# Altium integrated library pca63519.IntLib: 43 symbols
Pins are listed as number, name and electrical type; pins without a type are passive.

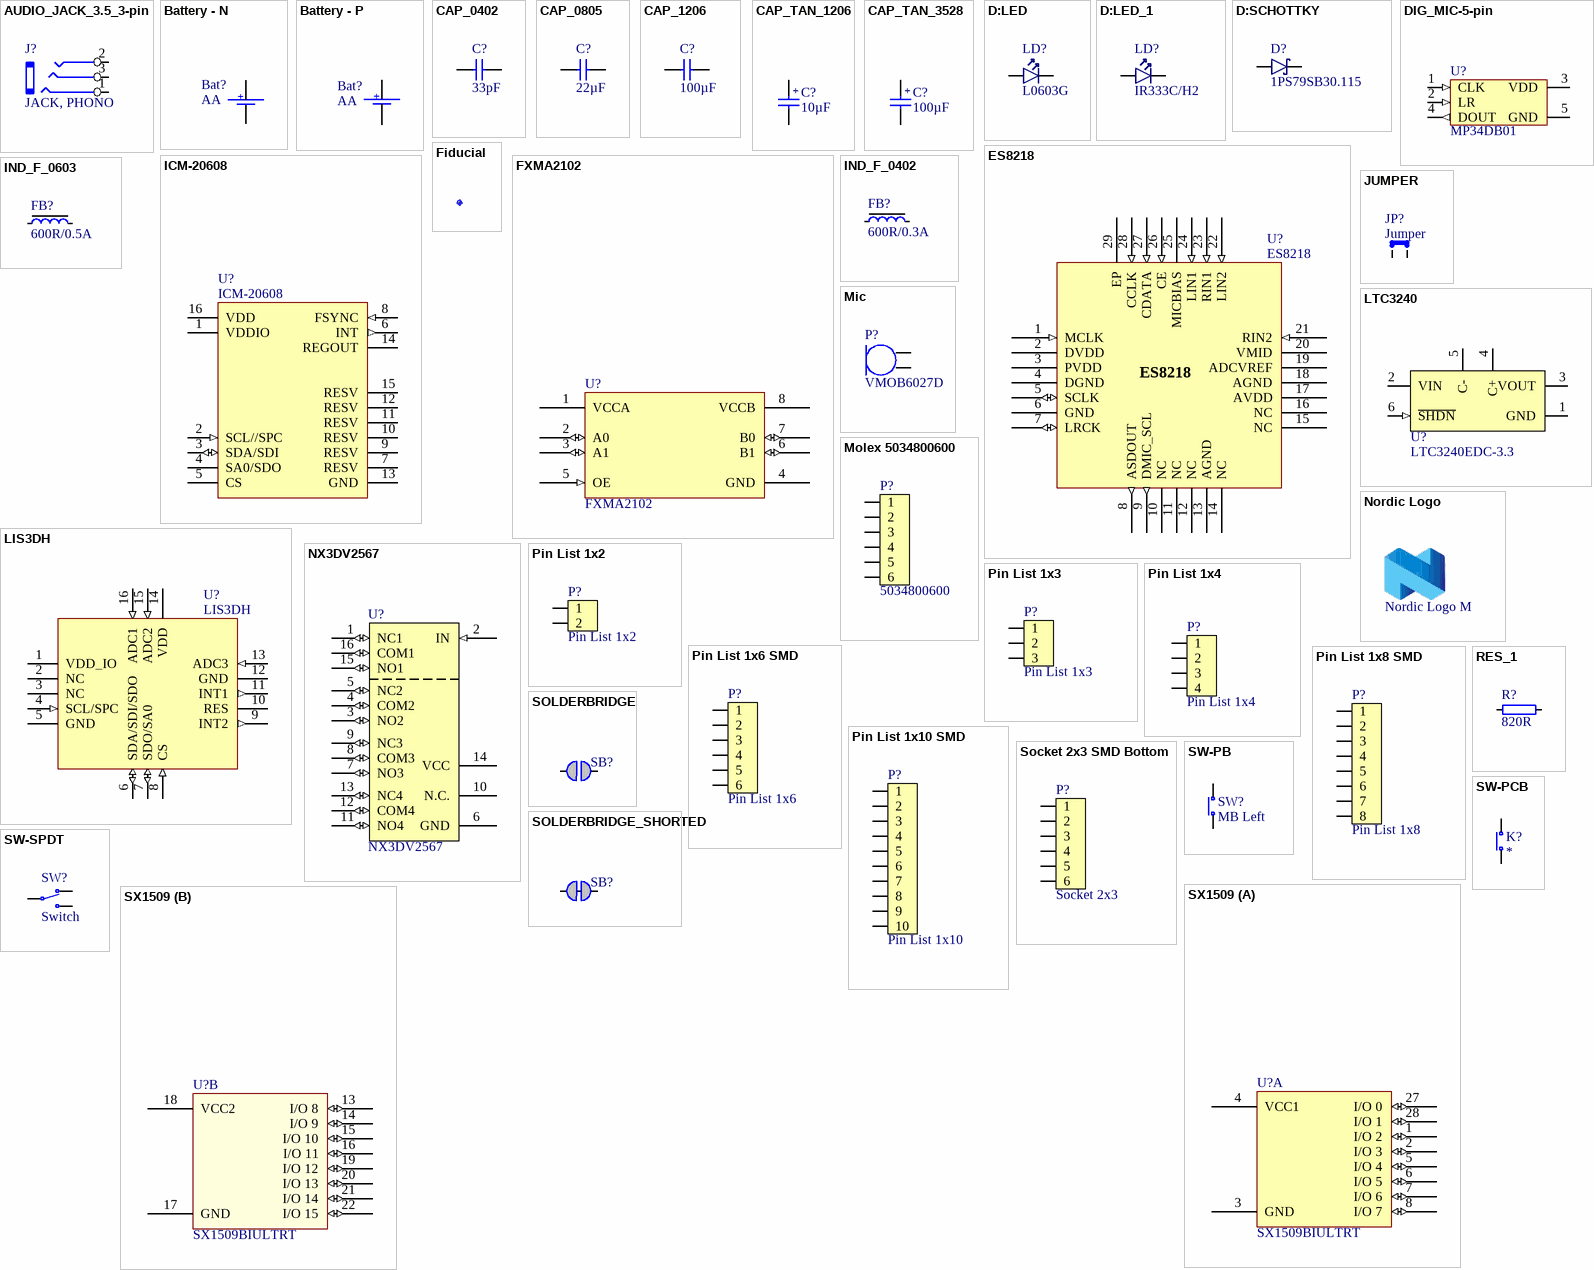
[diagram p0: symbols AUDIO_JACK_3.5_3-pin to SX1509]

## AUDIO_JACK_3.5_3-pin
designator J?, comment JACK, PHONO
CONN AUDIO JACK 3.5MM STEREO SMD; Part Number: SJ-3523-SMT-TR; Manufacturer: CUI Inc.; Artikkelnr Noca: N.A.; Manufacturer Part Number: SJ-3523-SMT-TR; Datasheet: http://www.cui.com/product/resource/digikeypdf/sj-352x-smt_series.pdf; Footprint Doc: SJ-3523-SMT-TR; LatestRevisionDate: 2014-12-15; Pin Count: 3; Publisher: Nordic Semiconductor; Published: 2014-12-15; Value: JACK, PHONO; Note: *; Supplier: Digi-Key; Supplier part number: CP-3523SJCT-ND; 2nd source Supplier: *; 2nd source part number: *; Artikkelnr Simpro: N.A.
footprint SJ-3523-SMT-TR
pins: 1 GND, 2 L, 3 R

## Battery - N
designator Bat?, comment AA
Polsat Battery holder, Negative pole; Part Number: POLSATBATTERYHOLDER_N; Manufacturer Part Number: NA; Artikkelnr Noca: N.A.; Manufacturer: PolSat; Datasheet: NA; Footprint Doc: POLSATBATTERYHOLDER; LatestRevisionDate: 2015-09-24; Pin Count: 1; Publisher: Nordic Semiconductor; Published: 2015-09-24; Value: POLSATBATTERYHOLDER; Note: AA; Supplier: *; Supplier part number: *; 2nd source Supplier: *; 2nd source part number: *; Artikkelnr Simpro: N.A.
footprint POLSATBATTERYHOLDER
pins: 1
text: +

## Battery - P
designator Bat?, comment AA
Polsat Battery holder, Positive pole; Part Number: POLSATBATTERYHOLDER_P; Manufacturer Part Number: NA; Artikkelnr Noca: N.A.; Manufacturer: PolSat; Datasheet: NA; Footprint Doc: POLSATBATTERYHOLDER; LatestRevisionDate: 2015-09-24; Pin Count: 1; Publisher: Nordic Semiconductor; Published: 2015-09-24; Value: POLSATBATTERYHOLDER; Note: AA; Supplier: *; Supplier part number: *; 2nd source Supplier: *; 2nd source part number: *; Artikkelnr Simpro: N.A.
footprint POLSATBATTERYHOLDER
pins: 1
text: +

## CAP_0402
designator C?, comment 33pF
Capacitor, NP0, ±5%; Part Number: C0402-33p; Note: 50V; Artikkelnr Noca: 20029146; Artikkelnr Simpro: N.A.; Manufacturer: *; Manufacturer Part Number: *; Datasheet: *; Footprint Doc: 0402; LatestRevisionDate: 2009-05-08; Pin Count: 2; Publisher: Nordic Semiconductor; Published: 2009-05-08; Value: 33pF; Supplier: *; Supplier part number: *; 2nd source Supplier: *; 2nd source part number: *
footprint CAPC1005X04L
pins: 1, 2

## CAP_0805
designator C?, comment 22µF
Capacitor, X5R, ±10%; Part Number: C0805-22µ; Note: 6.3V; Artikkelnr Noca: 20039330; Artikkelnr Simpro: N.A.; Manufacturer: *; Manufacturer Part Number: *; Datasheet: *; Footprint Doc: 0805; LatestRevisionDate: 2013-06-04; Pin Count: 2; Publisher: Nordic Semiconductor; Published: 2011-01-17; Value: 22µF; Supplier: *; Supplier part number: *; 2nd source Supplier: *; 2nd source part number: *
footprint CAPC2012X11L
pins: 1, 2

## CAP_1206
designator C?, comment 100µF
CAP CER 100UF 6.3V 20% X5R 1206; Part Number: C1206-100u-6.3V; Manufacturer: Murata Electronics North America; Manufacturer Part Number: GRM31CR60J107ME39L; Artikkelnr Noca: N.A.; Datasheet: http://search.murata.co.jp/Ceramy/image/img/A01X/G101/ENG/GRM31CR60J107ME39-01.pdf; Footprint Doc: 1206; LatestRevisionDate: 2015-02-26; Pin Count: 2; Publisher: Nordic Semiconductor; Published: 2015-02-26; Value: 100µF; Note: 6.3V; Supplier: Digi-Key; Supplier part number: 490-4539-2-ND; 2nd source Supplier: *; 2nd source part number: *; Artikkelnr Simpro: N.A.
footprint CAPC3216X13L
pins: 1, 2

## CAP_TAN_1206
designator C?, comment 10µF
Capacitor, Tantalum, ±10%; Part Number: C1206-10µ_Tantal; Note: 16V; Artikkelnr Noca: N.A.; Manufacturer: *; Manufacturer Part Number: *; Datasheet: *; Footprint Doc: 1206; LatestRevisionDate: 2013-12-17; Pin Count: 2; Publisher: Nordic Semiconductor; Published: 2011-01-17; Value: 10µF; Supplier: Digi-Key; Supplier part number: 399-8269-1-ND; 2nd source Supplier: *; 2nd source part number: *; Artikkelnr Simpro: N.A.
footprint CAPMP3216X18N
pins: 1, 2
text: +

## CAP_TAN_3528
designator C?, comment 100µF
Capacitor, Tantalum, ±10%; Part Number: C3528-100µF; Manufacturer: Vishay Sprague; Manufacturer Part Number: TR3B107K6R3C0500; Note: 6.3V; Artikkelnr Noca: N.A.; Datasheet: http://www.farnell.com/datasheets/438325.pdf; Footprint Doc: 3528; LatestRevisionDate: 2013-06-05; Pin Count: 2; Publisher: Nordic Semiconductor; Published: 2010-10-26; Value: 100µF; Supplier: Farnell; Supplier part number: 175-4047; 2nd source Supplier: *; 2nd source part number: *; Artikkelnr Simpro: N.A.
footprint CAPMP3528X21N
pins: 1, 2
text: +

## D:LED
designator LD?, comment L0603G
LED SMARTLED GREEN 570NM 0603; Part Number: LG L29K Smartled Green; Manufacturer: Osram; Manufacturer Part Number: LG L29K-G2J1-24-Z; 2nd source part number: 720-LGL29KG2J124Z; Note: 2,24..5.6 mcd, Vfmin=1.7V; Artikkelnr Noca: 13019147; Artikkelnr Simpro: N.A.; Datasheet: http://www.osram-os.com/Graphics/XPic2/00077107_0.pdf; Footprint Doc: 0603; LatestRevisionDate: 2016-08-26; Pin Count: 2; Publisher: Nordic Semiconductor; Published: 2014-10-28; Value: L0603G; Supplier: Digi-Key; Supplier part number: 475-2709-1-ND; 2nd source Supplier: Mouser
footprint LED_0603_G
pins: 1 C, 2 A

## D:LED_1
designator LD?, comment IR333C/H2
IR EMITTER, 3MM, 940NM; Part Number: IR333C/H2_SIDE; Manufacturer: Everlight; Artikkelnr Noca: N.A.; Manufacturer Part Number: IR333C/H2; Datasheet: http://www.everlight.com/file/ProductFile/IR333C-H2.pdf; Footprint Doc: LED_3MM_SIDE; LatestRevisionDate: 2016-03-29; Pin Count: 2; Publisher: Nordic Semiconductor; Published: 2016-03-29; Value: IR333C/H2; Note: *; Supplier: Mouser; Supplier part number: 638-IR333C/H2; 2nd source Supplier: *; 2nd source part number: *; Artikkelnr Simpro: N.A.
footprint LED_3MM_SIDE
pins: 1 C, 2 A

## D:SCHOTTKY
designator D?, comment 1PS79SB30.115
Diode Schottky Vf=0.38, Vr=40V, If=200mA, Ir=500nA; Manufacturer: NXP; 2nd source part number: 873-4097; Artikkelnr Noca: 10029120; Artikkelnr Simpro: N.A.; Part Number: 1PS79SB30.115; Manufacturer Part Number: 1PS79SB30.115; Datasheet: http://www.nxp.com/documents/data_sheet/1PS79SB30.pdf; Footprint Doc: SOD-523; LatestRevisionDate: 2016-08-26; Pin Count: 2; Publisher: Nordic Semiconductor; Published: 2014-09-24; Value: 1PS79SB30.115; Note: *; Supplier: Digi-Key; Supplier part number: 568-5973-1-ND; 2nd source Supplier: Farnell
footprint SOD-523
pins: 1 A, 3 C

## DIG_MIC-5-pin
designator U?, comment MP34DB01
MEMS audio sensor omnidirectional digital microphone; Manufacturer: STMicroelectronics; Note: Alternative: ADMP421, SPK0833LM4H-B; Artikkelnr Noca: 45019035; Artikkelnr Simpro: N.A.; Part Number: MP34DB01; Manufacturer Part Number: MP34DB01; Datasheet: http://www.st.com/web/en/resource/technical/document/datasheet/CD00284650.pdf; LatestRevisionDate: 2013-09-16; Pin Count: 5; Publisher: Nordic Semiconductor; Published: 2013-09-16; Value: MP34DB01; Supplier: Digi-Key; Supplier part number: 497-11241-1-ND; 2nd source Supplier: *; 2nd source part number: *; Footprint Doc: RHLGA-4
footprint RHLGA-4 (3x4x1mm)
pins: 1 CLK (in), 2 LR (in), 3 VDD (power), 4 DOUT (out), 5 GND (power)

## ES8218
designator U?
High performance, low power and low cost audio ADC. It consists of 2-ch ADC, microphone amplifier and auto level control; Manufacturer: Everest Semiconductor; Artikkelnr Noca: N.A.; Part Number: ES8218; Manufacturer Part Number: ES8218; Datasheet: http://projecttools.nordicsemi.no/confluence/download/attachments/10067496/Everest+ES8288+DS.pdf?version=1&modificationDate=1369290839060; Footprint Doc: QFN-28; LatestRevisionDate: 2014-07-10; Pin Count: 29; Publisher: Nordic Semiconductor; Published: 2014-07-03; Value: ES8218; Note: *; Supplier: *; Supplier part number: *; 2nd source Supplier: *; 2nd source part number: *; Artikkelnr Simpro: N.A.
footprint QFN45P400X400X90_HS-29N
pins: 1 MCLK (in), 2 DVDD (power), 3 PVDD (power), 4 DGND (power), 5 SCLK (io), 6 GND (power), 7 LRCK (io), 8 ASDOUT (out), 9 DMIC_SCL (out), 10 NC, 11 NC, 12 NC, 13 AGND, 14 NC, 15 NC, 16 NC, 17 AVDD (power), 18 AGND (power), 19 ADCVREF (power), 20 VMID (power), 21 RIN2 (in), 22 LIN2 (in), 23 RIN1 (in), 24 LIN1 (in), 25 MICBIAS (power), 26 CE (in), 27 CDATA (in), 28 CCLK (in), 29 EP (power)

## Fiducial
designator Fid?, comment Fiducial mark  (value not drawn)
Part Number: Fid-Mark; Artikkelnr Noca: N.A.; Manufacturer: *; Manufacturer Part Number: *; Datasheet: *; LatestRevisionDate: 2009-12-12; Pin Count: 1; Publisher: Nordic Semiconductor; Published: 2009-12-12; Value: *; Note: *; Supplier: *; Supplier part number: *; 2nd source Supplier: *; 2nd source part number: *; Footprint Doc: Fiducial; Artikkelnr Simpro: N.A.
footprint Fiducial

## FXMA2102
designator U?
XLATOR/BUFF/REPEAT/ISOLATR 8UMLPd; Manufacturer: Fairchild; Manufacturer Part Number: FXMA2102UMX; Artikkelnr Noca: N.A.; Part Number: FXMA2102; Datasheet: https://www.fairchildsemi.com/products/logic/voltage-level-translators/voltage-level-translators/FXMA2102.html?keyword=FXMA2102; Footprint Doc: UFQFN-8; LatestRevisionDate: 2015-04-29; Pin Count: 8; Publisher: Nordic Semiconductor; Published: 2015-04-29; Value: FXMA2102; Note: *; Supplier: Digi-Key; Supplier part number: FXMA2102UMXCT-ND; 2nd source Supplier: *; 2nd source part number: *; Artikkelnr Simpro: N.A.
footprint QFN40P140X120X55-8N
pins: 1 VCCA (power), 2 A0 (io), 3 A1 (io), 4 GND (power), 5 OE (in), 6 B1 (io), 7 B0 (io), 8 VCCB (power)

## ICM-20608
designator U?
Gyroscope and Accelerometer, PQFN-16; Manufacturer: InvenSense; Artikkelnr Noca: N.A.; Part Number: ICM-20608; Manufacturer Part Number: ICM-20608; Datasheet: http://43zrtwysvxb2gf29r5o0athu.wpengine.netdna-cdn.com/wp-content/uploads/2015/03/DS-000081-v1.01.pdf; Footprint Doc: LGA-16; LatestRevisionDate: 2015-02-26; Pin Count: 16; Publisher: Nordic Semiconductor; Published: 2015-02-26; Value: ICM-20608; Note: *; Supplier: Digi-Key; Supplier part number: 1428-1052-1-ND; 2nd source Supplier: *; 2nd source part number: *; Artikkelnr Simpro: N.A.
footprint PQFN50P300X300X100-16N
pins: 1 VDDIO (power), 2 SCL//SPC (in), 3 SDA/SDI (io), 4 SA0/SDO, 5 CS, 6 INT (out), 7 RESV, 8 FSYNC (in), 9 RESV, 10 RESV, 11 RESV, 12 RESV, 13 GND (power), 14 REGOUT (power), 15 RESV, 16 VDD (power)

## IND_F_0402
designator FB?, comment 600R/0.3A
Ferrite Bead, 600 Ohm @ 100MHz, 300mA, 600 mOhm Max; Part Number: FB0402-600R@100MHz-300mA; Manufacturer: Murata; Manufacturer Part Number: BLM15AG601SN1D; 2nd source part number: 490-1006-1-ND; Note: Chip EMIFIL Inductor Type Chip Ferrite Bead; Artikkelnr Noca: 33029424; Artikkelnr Simpro: N.A.; Datasheet: http://www.farnell.com/datasheets/5144.pdf; Footprint Doc: 0402; LatestRevisionDate: 2014-01-10; Pin Count: 2; Publisher: Nordic Semiconductor; Published: 2011-09-18; Value: 600R/0.3A; Supplier: Farnell; Supplier part number: 151-5762; 2nd source Supplier: Digi-Key
footprint INDC1005X04L
pins: 1, 2

## IND_F_0603
designator FB?, comment 600R/0.5A
Ferrite Bead, 600 Ohm @ 100MHz, 500mA, 380 mOhm Max; Part Number: FB0603-600R@100MHz-500mA; Manufacturer: Murata; Manufacturer Part Number: BLM18AG601SN1; 2nd source part number: 490-1014-1-ND; Note: Chip EMIFIL Inductor Type Chip Ferrite Bead; Artikkelnr Noca: 37019100; Artikkelnr Simpro: N.A.; Datasheet: http://www.farnell.com/datasheets/356366.pdf; Footprint Doc: 0603; LatestRevisionDate: 2014-01-10; Pin Count: 2; Publisher: Nordic Semiconductor; Published: 2010-09-02; Value: 600R/0.5A; Supplier: Farnell; Supplier part number: 151-5679; 2nd source Supplier: Digi-Key
footprint INDC1608X06L
pins: 1, 2

## JUMPER
designator JP?, comment Jumper
Jumper - 2.54mm; Artikkelnr Noca: 56019040; Artikkelnr Simpro: N.A.; Part Number: Jumper-2.54mm; Manufacturer: *; Manufacturer Part Number: *; Datasheet: *; Footprint Doc: Jumper-2.54mm; LatestRevisionDate: 2009-12-12; Pin Count: 2; Publisher: Nordic Semiconductor; Published: 2009-12-12; Value: Jumper; Note: Jumper; Supplier: *; Supplier part number: *; 2nd source Supplier: *; 2nd source part number: *
footprint Jumper-2.54mm
pins: 1, 2

## LIS3DH
designator U?
3-axis - ±2g/±4g/±8g/±16g digital output nano accelerometer; Manufacturer: STMicroelectronics; 2nd source part number: 187-2923; Note: MEMS digital output motion sensor ultra low-power high performance 3-axes "nano" accelerometer; Artikkelnr Noca: 15079978; Artikkelnr Simpro: N.A.; Value: LIS3DH; Part Number: LIS3DH; Manufacturer Part Number: LIS3DH; Datasheet: http://www.st.com/st-web-ui/static/active/en/resource/technical/document/datasheet/CD00274221.pdf; LatestRevisionDate: 2015-01-09; Pin Count: 16; Publisher: Nordic Semiconductor; Published: 2011-08-30; Supplier: Digi-Key; Supplier part number: 497-10613-1-ND; 2nd source Supplier: Farnell; Footprint Doc: LGA-16
footprint PQFN50P300X300X100-16N
pins: 1 VDD_IO (power), 2 NC, 3 NC, 4 SCL/SPC (in), 5 GND (power), 6 SDA/SDI/SDO (io), 7 SDO/SA0 (io), 8 CS (in), 9 INT2 (out), 10 RES, 11 INT1 (out), 12 GND (power), 13 ADC3 (in), 14 VDD (power), 15 ADC2 (in), 16 ADC1 (in)

## LTC3240
designator U?, comment LTC3240EDC-3.3
IC REG MULTI CONFIG 3.3V 6DFN; Manufacturer: Linear Technology; Manufacturer Part Number: LTC3240EDC-3.3#TRMPBF; Artikkelnr Noca: N.A.; Part Number: LTC3240EDC-3.3; Datasheet: http://www.linear.com/docs/14497; Footprint Doc: WFDFN-6; LatestRevisionDate: 2009-04-22; Pin Count: 7; Publisher: Nordic Semiconductor; Published: 2009-04-22; Value: LTC3240EDC-3.3; Note: *; Supplier: Digi-Key; Supplier part number: LTC3240EDC-3.3#TRMPBFCT-ND; 2nd source Supplier: *; 2nd source part number: *; Artikkelnr Simpro: N.A.
footprint SON50P200X80_HS-7N
pins: 1 GND (power), 2 VIN (power), 3 VOUT (power), 4 C+, 5 C-, 6 ~{SHDN} (in), 7 GND (power) hidden to GND

## Mic
designator P?, comment VMOB6027D
Omnidirectional Back Electret Condenser Microphone; Part Number: VMOB6027D-423G-PAHRAC-00-0; Manufacturer: VECO; Artikkelnr Noca: N.A.; Manufacturer Part Number: VMOB6027D-423G-PAHRAC-00-0; Datasheet: C:\Datasheets\VECO\VMOB6027D.pdf; Footprint Doc: MIC_VMOB6027D; LatestRevisionDate: 2016-01-18; Pin Count: 2; Publisher: Nordic Semiconductor; Published: 2014-07-29; Value: VMOB6027D; Note: *; Supplier: *; Supplier part number: *; 2nd source Supplier: *; 2nd source part number: *; Artikkelnr Simpro: N.A.
footprint MIC_VMOB6027D
pins: 1 POWER/OUT (power), 2 GND (power)

## Molex 5034800600
designator P?, comment 5034800600
CONN FFC FPC 6POS 0.50MM R/A; Part Number: Molex 5034800600; Manufacturer: Molex; Artikkelnr Noca: N.A.; Manufacturer Part Number: 5034800600; Datasheet: http://www.molex.com/pdm_docs/sd/5034800600_sd.pdf; Footprint Doc: Molex 5034800600; LatestRevisionDate: 2015-10-01; Pin Count: 8; Publisher: Nordic Semiconductor; Published: 2015-10-01; Value: 5034800600; Note: *; Supplier: Digi-Key; Supplier part number: WM1387TR-ND; 2nd source Supplier: *; 2nd source part number: *; Artikkelnr Simpro: N.A.
footprint Molex 5034800600
pins: 1, 2, 3, 4, 5, 6

## Nordic Logo
designator LOGO?, comment Nordic Logo M  (no BOM)
Nordic Logo, medium size; Artikkelnr Noca: N.A.; Part Number: Nordic Logo M; Manufacturer: *; Manufacturer Part Number: *; Datasheet: *; LatestRevisionDate: 2010-02-18; Publisher: Nordic Semiconductor; Value: Nordic Logo M; Note: *; Supplier: *; Supplier part number: *; 2nd source Supplier: *; 2nd source part number: *; Pin Count: 2; Published: 2010-02-18; Footprint Doc: NORDIC_LOGO_M; Artikkelnr Simpro: N.A.
footprint NORDIC_LOGO_M

## NX3DV2567
designator U?
Low-ohmic four-pole double-throw analog switch; Part Number: NX3DV2567GU; Manufacturer: NXP Semiconductors; 2nd source part number: 771-NX3DV2567GU115; Artikkelnr Noca: 15079317; Artikkelnr Simpro: N.A.; Manufacturer Part Number: NX3DV2567GU; Datasheet: http://www.nxp.com/documents/data_sheet/NX3DV2567.pdf; Footprint Doc: XQFN-16; LatestRevisionDate: 2015-02-17; Pin Count: 16; Publisher: Nordic Semiconductor; Published: 2015-02-17; Value: NX3DV2567; Note: *; Supplier: Digi-Key; Supplier part number: 568-5206-1-ND; 2nd source Supplier: Mouser
footprint XQFN40P180X260X50-16N
pins: 1 NC1 (io), 2 IN (in), 3 NO2 (io), 4 COM2 (io), 5 NC2 (io), 6 GND (power), 7 NO3 (io), 8 COM3 (io), 9 NC3 (io), 10 N.C., 11 NO4 (io), 12 COM4 (io), 13 NC4 (io), 14 VCC (power), 15 NO1 (io), 16 COM1 (io)

## Pin List 1x2
designator P?
Pin List 1x2, 2.54mm (100mil); Artikkelnr Noca: 56019040; Artikkelnr Simpro: N.A.; Part Number: Pin List 1x2; Manufacturer: *; Manufacturer Part Number: *; Datasheet: *; Footprint Doc: LIST_1x2; LatestRevisionDate: 2009-12-12; Pin Count: 2; Publisher: Nordic Semiconductor; Published: 2009-12-12; Value: Pin List 1x2; Note: *; Supplier: *; Supplier part number: *; 2nd source Supplier: *; 2nd source part number: *
footprint LIST_1x2
pins: 1, 2

## Pin List 1x3
designator P?
Pin List 1x3, 2.54mm (100mil); Artikkelnr Noca: 56019041; Artikkelnr Simpro: N.A.; Part Number: Pin List 1x3; Manufacturer: *; Manufacturer Part Number: *; Datasheet: *; Footprint Doc: LIST_1x3; LatestRevisionDate: 2009-12-12; Pin Count: 3; Publisher: Nordic Semiconductor; Published: 2009-12-12; Value: Pin List 1x3; Note: *; Supplier: *; Supplier part number: *; 2nd source Supplier: *; 2nd source part number: *
footprint LIST_1x3
pins: 1, 2, 3

## Pin List 1x4
designator P?
Pin List 1x4, 2.54mm (100mil); Artikkelnr Noca: 56019092; Artikkelnr Simpro: N.A.; Part Number: Pin List 1x4; Manufacturer: *; Manufacturer Part Number: *; Datasheet: *; Footprint Doc: LIST_1x4; LatestRevisionDate: 2009-12-12; Pin Count: 4; Publisher: Nordic Semiconductor; Published: 2009-12-12; Value: Pin List 1x4; Note: *; Supplier: *; Supplier part number: *; 2nd source Supplier: *; 2nd source part number: *
footprint LIST_1x4
pins: 1, 2, 3, 4

## Pin List 1x6 SMD
designator P?, comment Pin List 1x6
Pin List 1x6, 2.54mm (100mil), SMD; Part Number: Pin List 1x6 SMD; Manufacturer: W-CON; Manufacturer Part Number: 1125-1106S0M116R2; 2nd source part number: TSM-106-01-L-SV-P-TR; Artikkelnr Noca: 55010026; Artikkelnr Simpro: N.A.; Datasheet: \\hizz\pro\app9717\Datasheet\connectores\W-CON\1125-11XXXXMXXXXX.pdf; LatestRevisionDate: 2016-03-29; Pin Count: 6; Publisher: Nordic Semiconductor; Published: 2016-03-29; Value: Pin List 1x6; Note: *; Supplier: Cabcon; Supplier part number: 1125-1106S0M116R2; 2nd source Supplier: Samtec; Footprint Doc: LIST_1x6_SMD
footprint LIST_1x6_SMD
pins: 1, 2, 3, 4, 5, 6

## Pin List 1x8 SMD
designator P?, comment Pin List 1x8
Pin List 1x8, 2.54mm (100mil), SMD; Part Number: Pin List 1x8 SMD; Manufacturer: W-CON; Manufacturer Part Number: 1125-1108S0M116R2; 2nd source part number: TSM-108-01-L-SV-P-TR; Artikkelnr Noca: 55010006; Artikkelnr Simpro: N.A.; Datasheet: \\hizz\pro\app9717\Datasheet\connectores\W-CON\1125-11XXXXMXXXXX.pdf; LatestRevisionDate: 2016-01-22; Publisher: Nordic Semiconductor; Published: 2016-01-22; Value: Pin List 1x8; Note: *; Supplier: Cabcon; Supplier part number: 1125-1108S0M116R2; 2nd source Supplier: Samtec; Pin Count: 8; Footprint Doc: LIST_1x8_SMD
footprint LIST_1x8_SMD
pins: 1, 2, 3, 4, 5, 6, 7, 8

## Pin List 1x10 SMD
designator P?, comment Pin List 1x10
Pin List 1x10, 2.54mm (100mil), SMD; Part Number: Pin List 1x10 SMD; Manufacturer: W-CON; Manufacturer Part Number: 1125-1110S0M116R2; 2nd source part number: TSM-110-01-L-SV-P-TR; Artikkelnr Noca: 55010028; Artikkelnr Simpro: N.A.; Datasheet: \\hizz\pro\app9717\Datasheet\connectores\W-CON\1125-11XXXXMXXXXX.pdf; LatestRevisionDate: 2016-03-29; Publisher: Nordic Semiconductor; Published: 2016-03-29; Value: Pin List 1x10; Note: *; Supplier: Cabcon; Supplier part number: 1125-1110S0M116R2; 2nd source Supplier: Samtec; Pin Count: 10; Footprint Doc: LIST_1x10_SMD
footprint LIST_1x10_SMD
pins: 1, 2, 3, 4, 5, 6, 7, 8, 9, 10

## RES_1
designator R?, comment 820R
Resistor, ±1%, 0.063W; Part Number: R0402-820; Note: Chip Res 1%; Artikkelnr Noca: 27049071; Artikkelnr Simpro: N.A.; Value Ohm: 820; Manufacturer: *; Manufacturer Part Number: *; Datasheet: *; Footprint Doc: 0402; LatestRevisionDate: 2009-11-23; Pin Count: 2; Publisher: Nordic Semiconductor; Published: 2009-05-08; Value: 820R; Supplier: Farnell; Supplier part number: 173-8849; 2nd source Supplier: *; 2nd source part number: *
footprint RESC1005X04L
pins: 1, 2

## Socket 2x3 SMD Bottom
designator P?, comment Socket 2x3
Socket 2x3, 2.54mm (100mil), SMD; Part Number: Socket 2x3 SMD Bottom; Manufacturer: W-CON; Manufacturer Part Number: 2171-203MS0CUNR1; 2nd source part number: SSM-103-F-DV-P-TR; Artikkelnr Noca: 55030010; Artikkelnr Simpro: N.A.; Datasheet: \\hizz\pro\app9717\Datasheet\connectores\W-CON\2171-2XXMXXCUNXX.pdf; LatestRevisionDate: 2016-03-29; Pin Count: 6; Publisher: Nordic Semiconductor; Published: 2014-06-10; Value: Socket 2x3; Note: *; Supplier: Cabcon; Supplier part number: 2171-203MS0CUNR1; 2nd source Supplier: Samtec; Footprint Doc: SOCKET_2x3_SMD-2.54mm-bottom
footprint SOCKET_2x3_SMD-2.54mm-bottom
pins: 1, 2, 3, 4, 5, 6

## SOLDERBRIDGE
designator SB?, comment Solderbridge  (value not drawn)  (no BOM)
Part Number: Solderbridge 0.4mm; Artikkelnr Noca: N.A.; Manufacturer: *; Manufacturer Part Number: *; Datasheet: *; Footprint Doc: Solderbridge; LatestRevisionDate: 2009-12-14; Pin Count: 2; Publisher: Nordic Semiconductor; Published: 2009-12-14; Value: Solderbridge; Note: *; Supplier: *; Supplier part number: *; 2nd source Supplier: *; 2nd source part number: *; Artikkelnr Simpro: N.A.
footprint Solderbridge_0.4
pins: 1 0, 2 1

## SOLDERBRIDGE_SHORTED
designator SB?, comment Solderbridge  (value not drawn)  (net tie, no BOM)
Shorted Solderbridge; Part Number: Solderbridge Shorted 0.4mm; Artikkelnr Noca: N.A.; Manufacturer: *; Manufacturer Part Number: *; Datasheet: *; Footprint Doc: Solderbridge_Shorted; LatestRevisionDate: 2012-08-07; Pin Count: 2; Publisher: Nordic Semiconductor; Published: 2012-08-07; Value: Solderbridge; Note: *; Supplier: *; Supplier part number: *; 2nd source Supplier: *; 2nd source part number: *; Artikkelnr Simpro: N.A.
footprint Solderbridge_SHORTED_0.4
pins: 1 0, 2 1

## SW-PB
designator SW?, comment MB Left
ALPS - SKHUALE010 - Tactile Switch, SPNO, SMD, 6.5x6.2x2.5mm; Part Number: ALPS_SKHUALE010; 2nd source part number: 688-SKHUALE010; Value: PB SW; Artikkelnr Noca: 50019001; Artikkelnr Simpro: N.A.; Manufacturer: Alps; Manufacturer Part Number: SKHUALE010; Datasheet: https://www1.elfa.se/data1/wwwroot/webroot/Z_DATA/03579000.pdf; LatestRevisionDate: 2010-02-01; Pin Count: 4; Publisher: Nordic Semiconductor; Published: 2010-02-01; Note: *; Supplier: Elfa; Supplier part number: 35-790-00; 2nd source Supplier: Mouser; Footprint Doc: ALPS_SKHUxxx010_WO_GND
footprint ALPS_SKHUxxx010_WO_GND
pins: 1 N.O, 2 COM

## SW-PCB
designator K?  (no BOM)
Keyboard matrix switch; Part Number: KEY_SWITCH_SR3; Value: PCB SW; Artikkelnr Noca: N.A.; Manufacturer: *; Manufacturer Part Number: *; Datasheet: *; LatestRevisionDate: 2015-05-05; Pin Count: 2; Publisher: Nordic Semiconductor; Published: 2015-05-05; Note: *; Supplier: *; Supplier part number: *; 2nd source Supplier: *; 2nd source part number: *; Footprint Doc: *; Artikkelnr Simpro: N.A.
footprint PCB Switch
pins: 1 N.O, 2 COM

## SW-SPDT
designator SW?, comment Switch
SMD slide Switch (ON-ON); Part Number: CJS-1200TA; Manufacturer: Copal Electronics Inc; Artikkelnr Noca: 50019068; Artikkelnr Simpro: N.A.; Manufacturer Part Number: CJS-1200TA; Datasheet: http://media.digikey.com/pdf/Data%20Sheets/COPAL%20Electronics%20PDFs/CJS.pdf; LatestRevisionDate: 2012-10-03; Pin Count: 3; Publisher: Nordic Semiconductor; Published: 2012-10-03; Value: Switch; Note: *; Supplier: Digi-Key; Supplier part number: 563-1021-2-ND; 2nd source Supplier: *; 2nd source part number: *; Footprint Doc: CJS-120xA
footprint CJS-120xA
pins: 1 N.C, 2 COM, 3 N.O

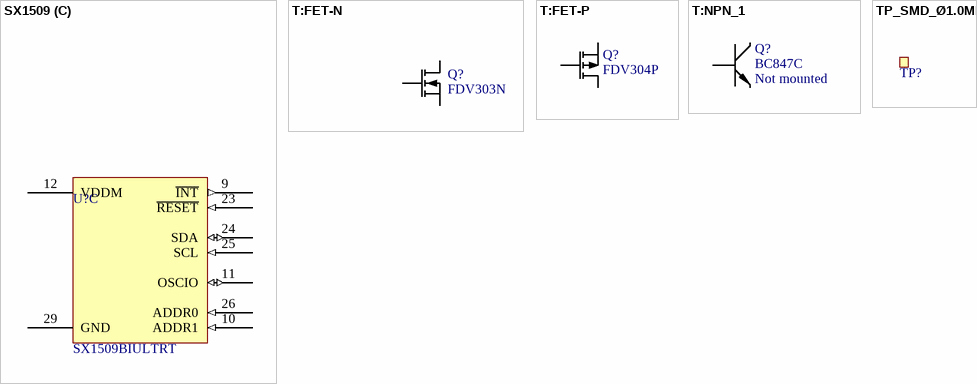
[diagram p1: symbols SX1509 to TP_SMD_Ø1.0MM]

## SX1509
designator U?, comment SX1509BIULTRT
IC GPIO EXPANDER I2C 16CH 28QFN; Manufacturer: Semtech Corporation; Artikkelnr Noca: N.A.; Part Number: SX1509BIULTRT; Manufacturer Part Number: SX1509BIULTRT; Datasheet: http://www.semtech.com/apps/product.php?pn=sx1509&x=0&y=0; Footprint Doc: QFN-28; LatestRevisionDate: 2015-03-10; Pin Count: 29; Publisher: Nordic Semiconductor; Published: 2015-03-10; Value: SX1509BIULTRT; Note: *; Supplier: Digi-Key; Supplier part number: SX1509BIULCT-ND; 2nd source Supplier: *; 2nd source part number: *; Artikkelnr Simpro: N.A.
footprint QFN40P400X400X60_HS-29N
part A pins: 1 I/O 2 (io), 2 I/O 3 (io), 3 GND (power), 4 VCC1 (power), 5 I/O 4 (io), 6 I/O 5 (io), 7 I/O 6 (io), 8 I/O 7 (io), 27 I/O 0 (io), 28 I/O 1 (io)
part B pins: 13 I/O 8 (io), 14 I/O 9 (io), 15 I/O 10 (io), 16 I/O 11 (io), 17 GND (power), 18 VCC2 (power), 19 I/O 12 (io), 20 I/O 13 (io), 21 I/O 14 (io), 22 I/O 15 (io)
part C pins: 9 ~{INT} (out), 10 ADDR1 (in), 11 OSCIO (io), 12 VDDM (power), 23 ~{RESET} (in), 24 SDA (io), 25 SCL (in), 26 ADDR0 (in), 29 GND (power)

## T:FET-N
designator Q?, comment FDV303N
Mosfet FDV303N; 2nd source part number: FDV303NCT-ND; Note: Schottky; Artikkelnr Noca: 35029048; Artikkelnr Simpro: N.A.; Part Number: FDV303N; Manufacturer: *; Manufacturer Part Number: *; Datasheet: *; LatestRevisionDate: 2009-11-23; Pin Count: 3; Publisher: Nordic Semiconductor; Published: 2009-05-10; Value: FDV303N; Supplier: Farnell; Supplier part number: 984-5020; 2nd source Supplier: Digi-Key; Footprint Doc: SOT-23a
footprint SOT-23a
pins: 1 G, 2 S, 3 D

## T:FET-P
designator Q?, comment FDV304P
Mosfet FDV304P; 2nd source part number: FDV304PCT-ND; Note: Schottky; Artikkelnr Noca: 35029046; Artikkelnr Simpro: N.A.; Part Number: FDV304P; Manufacturer: *; Manufacturer Part Number: *; Datasheet: *; Footprint Doc: SOT-23a; LatestRevisionDate: 2009-11-23; Pin Count: 3; Publisher: Nordic Semiconductor; Published: 2009-05-11; Value: FDV304P; Supplier: Farnell; Supplier part number: 984-6123; 2nd source Supplier: Digi-Key
footprint SOT-23a
pins: 1 G, 2 S, 3 D

## T:NPN_1
designator Q?, comment BC847C  Assembly: Not mounted
BC847C, NPN Silicon transistor; Manufacturer: NXP; 2nd source part number: 568-1636-1-ND; Note: NPN Epitaxial Silicon Transistor; Artikkelnr Noca: 35019020; Artikkelnr Simpro: N.A.; Part Number: BC847C; Manufacturer Part Number: BC847C; Datasheet: *; Footprint Doc: SOT-23a; LatestRevisionDate: 2009-11-23; Pin Count: 3; Publisher: Nordic Semiconductor; Published: 2009-05-10; Value: BC847C; Supplier: Farnell; Supplier part number: 108-1235; 2nd source Supplier: Digi-Key
footprint SOT-23a
pins: 1 B, 2 E (power), 3 C (power)

## TP_SMD_Ø1.0MM
designator TP?, comment Ø1.0mm,SMD  (value not drawn)  (no BOM)
1.0mm circular SMD testpad; Part Number: TP_SMD_Ø1.0MM; Manufacturer: Nordic Semiconductor; Artikkelnr Noca: N.A.; Manufacturer Part Number: *; Datasheet: *; Footprint Doc: TP_SMD_Ø1.0mm; LatestRevisionDate: 2013-06-11; Pin Count: 1; Publisher: Nordic Semiconductor; Published: 2013-06-11; Value: Ø1.0mm,SMD; Note: *; Supplier: *; Supplier part number: *; 2nd source Supplier: *; 2nd source part number: *; Artikkelnr Simpro: N.A.
footprint TP_SMD_Ø1.0mm
pins: 1